# Altium integrated library TI Amplifiers and Linear Operational Amplifier High Speed.IntLib: 1100 symbols (part 34 of 44)
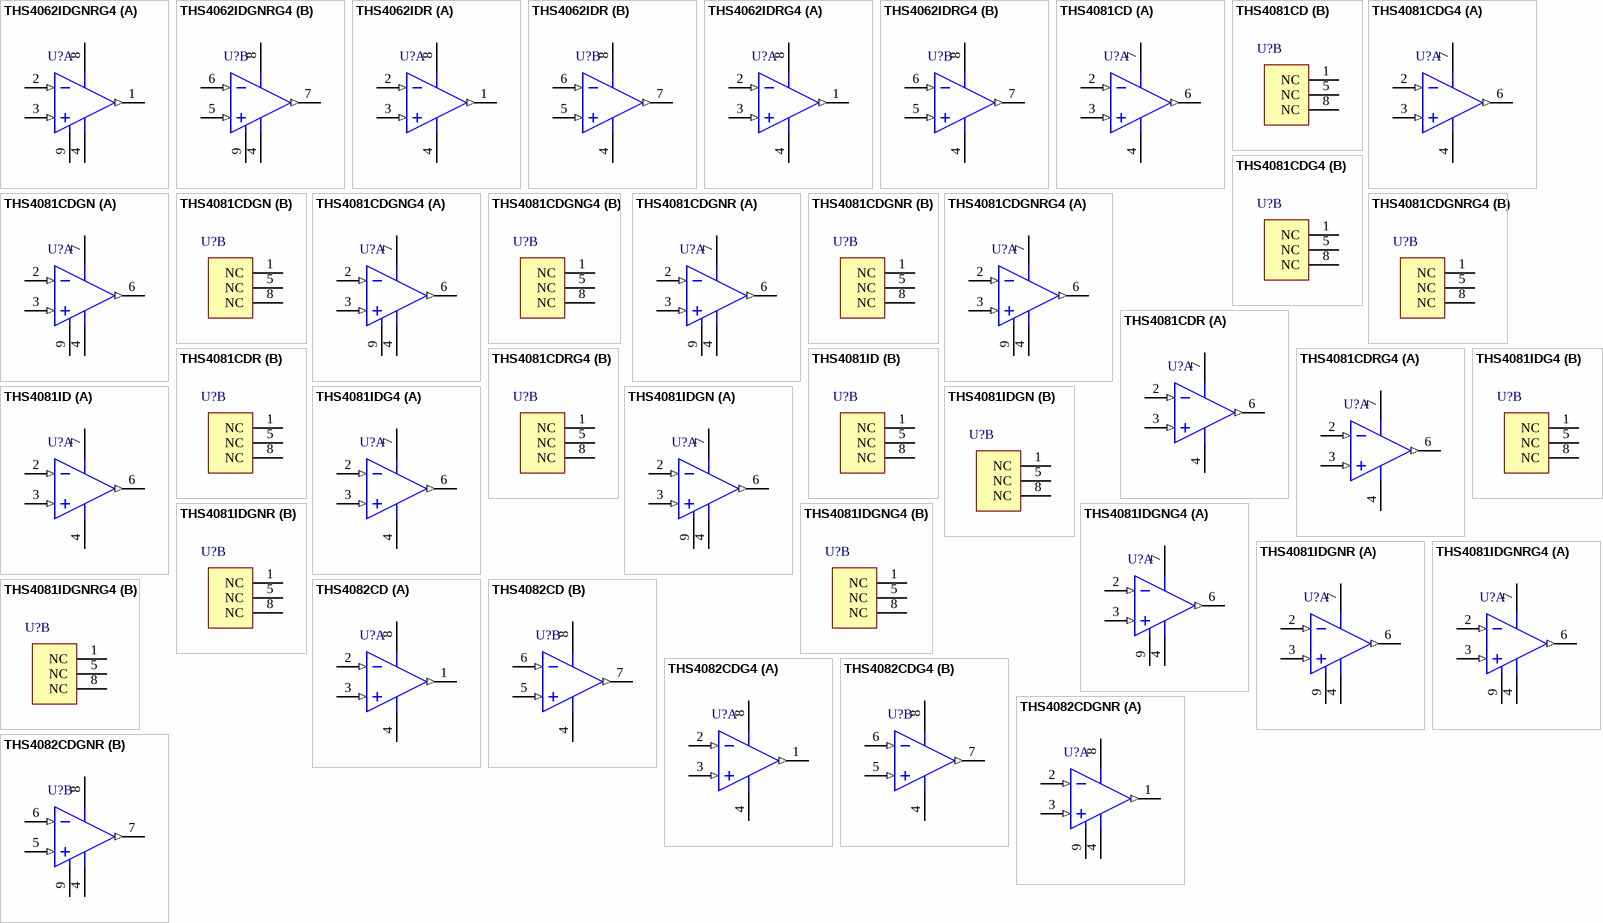
[diagram p84: symbols THS4062IDGNRG4 to THS4082CDGNR]

## THS4081IDGNRG4
designator U?
175 MHz Low-Power Voltage-Feedback Amplifier, 10 to 30 V, -40 to 85 degC, 8-pin SOP (DGN8), Green (RoHS & no Sb/Br); Manufacturer: Texas Instruments; PartNumber: THS4081IDGNRG4; 2nd Harmonic(dBc): 66; 3rd Harmonic(dBc): 77; @ MHz: 1; BW @ Acl(MHz): 175; Diff Gain(%): 0.01; Diff Phase(deg): 0.05; Iib(Max)(nA): 6000; Io(Typ)(mA): 85; Iq per channel(Max)(mA): 5; Settling Time (0.1%)(Typ)(ns): 43; Slew Rate(Typ)(V/us): 230; Sub Family: High Output Current Amplifier (>=50mA), High Speed Amplifier (>=50MHz), High Supply Voltage Amplifier (>=30V); THD (Fc is 1 MHz)(Typ)(dB): -64; Vio(Max)(mV): 7; Vn at Flatband(Typ)(nV/rtHz): 10; Vs(Max)(V): 30; DatasheetVersion: SLOS274D; PackageVersion: 4073271/F, 05/2011; PackageReference: DGN8-1760X1425TP; PackageDescription: 8-pin Plastic Small Outline, Body 3 x 3 mm, Pitch 0.65 mm; Supplier 1: Digi-Key; Supplier Part Number 1: THS4081IDGNRG4-ND; Supplier 2: Mouser; Supplier Part Number 2: 595-THS4081IDGNRG4; Acl, min stable gain(V/V): 1; Eco-Plan: Green (RoHS & no Sb/Br); Number of Channels: 1; Vs(Min)(V): 10; Mounting Technology: Surface Mount; Code_JEDEC: MO-187; ComponentLink1Description: Manufacturer URL; ComponentLink1URL: http://www.ti.com/; ComponentLink2Description: Datasheet; ComponentLink2URL: http://www.ti.com/general/docs/lit/getliterature.tsp?genericPartNumber=THS4081&fileType=pdf; ComponentLink3Description: Package Specification; ComponentLink3URL: http://www.ti.com/litv/pdf/mpds046e
footprint TI-DGN8-1760X1425TP_N (SOP, 8-Leads, Body 3x3mm, Pitch 0.65mm, Thermal Pad 1.76x1.425mm, IPC Medium Density)
footprint TI-DGN8-1760X1425TP_L (SOP, 8-Leads, Body 3x3mm, Pitch 0.65mm, Thermal Pad 1.76x1.425mm, IPC High Density)
footprint TI-DGN8-1760X1425TP_M (SOP, 8-Leads, Body 3x3mm, Pitch 0.65mm, Thermal Pad 1.76 x 1.425 mm, IPC Low Density)
part A pins: 2 IN- (in), 3 IN+ (in), 4 VCC- (power), 6 OUT (out), 7 VCC+ (power), 9 EP (power)
part B pins: 1 NC, 5 NC, 8 NC

## THS4082CD
designator U?
175 MHz Low-Power Voltage-Feedback Amplifier, Dual, 10 to 30 V, 0 to 70 degC, 8-pin SOIC (D8), Green (RoHS & no Sb/Br); Manufacturer: Texas Instruments; PartNumber: THS4082CD; 2nd Harmonic(dBc): 66; 3rd Harmonic(dBc): 77; @ MHz: 1; BW @ Acl(MHz): 175; Diff Gain(%): 0.01; Diff Phase(deg): 0.05; Iib(Max)(nA): 8000; Io(Typ)(mA): 85; Iq per channel(Max)(mA): 5; Number of Channels: 2; Settling Time (0.1%)(Typ)(ns): 43; Slew Rate(Typ)(V/us): 233; Sub Family: High Output Current Amplifier (>=50mA), High Speed Amplifier (>=50MHz), High Supply Voltage Amplifier (>=30V); THD (Fc is 1 MHz)(Typ)(dB): -64; Vio(Max)(mV): 4.5; Vn at Flatband(Typ)(nV/rtHz): 10.2; Vs(Max)(V): 30; Vs(Min)(V): 10; DatasheetVersion: SLOS274D; PackageVersion: 4040047-3/M, 06/2011; PackageReference: D8; PackageDescription: 8-Pin Plastic Small Outline, Body 4.9 x 3.9 mm, Pitch 1.27 mm; Supplier 1: Digi-Key; Supplier Part Number 1: 296-7550-5-ND; Supplier 2: Mouser; Supplier Part Number 2: 595-THS4082CD; Acl, min stable gain(V/V): 1; Eco-Plan: Green (RoHS & no Sb/Br); Mounting Technology: Surface Mount; Code_JEDEC: MS-012; ComponentLink1Description: Manufacturer URL; ComponentLink1URL: http://www.ti.com/; ComponentLink2Description: Datasheet; ComponentLink2URL: http://www.ti.com/general/docs/lit/getliterature.tsp?genericPartNumber=THS4082&fileType=pdf; ComponentLink3Description: Package Specification; ComponentLink3URL: http://www.ti.com/litv/pdf/msoi002j
footprint TI-D8_N (SOIC, 8-Leads, Body 4.9x3.9mm, Pitch 1.27mm, IPC Medium Density)
footprint TI-D8_L (SOIC, 8-Leads, Body 4.9x3.9mm, Pitch 1.27mm, IPC High Density)
footprint TI-D8_M (SOIC, 8-Leads, Body 4.9x3.9mm, Pitch 1.27mm, IPC Low Density)
pins on every part: 4 VCC- (power), 8 VCC+ (power)
part A pins: 1 OUT1 (out), 2 IN1- (in), 3 IN1+ (in)
part B pins: 5 IN2+ (in), 6 IN2- (in), 7 OUT2 (out)

## THS4082CDG4
designator U?
175 MHz Low-Power Voltage-Feedback Amplifier, Dual, 10 to 30 V, 0 to 70 degC, 8-pin SOIC (D8), Green (RoHS & no Sb/Br); Manufacturer: Texas Instruments; PartNumber: THS4082CDG4; 2nd Harmonic(dBc): 66; 3rd Harmonic(dBc): 77; @ MHz: 1; BW @ Acl(MHz): 175; Diff Gain(%): 0.01; Diff Phase(deg): 0.05; Iib(Max)(nA): 8000; Io(Typ)(mA): 85; Iq per channel(Max)(mA): 5; Number of Channels: 2; Settling Time (0.1%)(Typ)(ns): 43; Slew Rate(Typ)(V/us): 233; Sub Family: High Output Current Amplifier (>=50mA), High Speed Amplifier (>=50MHz), High Supply Voltage Amplifier (>=30V); THD (Fc is 1 MHz)(Typ)(dB): -64; Vio(Max)(mV): 4.5; Vn at Flatband(Typ)(nV/rtHz): 10.2; Vs(Max)(V): 30; Vs(Min)(V): 10; DatasheetVersion: SLOS274D; PackageVersion: 4040047-3/M, 06/2011; PackageReference: D8; PackageDescription: 8-Pin Plastic Small Outline, Body 4.9 x 3.9 mm, Pitch 1.27 mm; Supplier 1: Digi-Key; Supplier Part Number 1: THS4082CDG4-ND; Supplier 2: Farnell; Supplier Part Number 2: 1214367; Supplier 3: Newark; Supplier Part Number 3: 98K1517; Supplier 4: Newark; Supplier Part Number 4: 54K0753; Supplier 5: Mouser; Supplier Part Number 5: 595-THS4082CDG4; Acl, min stable gain(V/V): 1; Eco-Plan: Green (RoHS & no Sb/Br); Mounting Technology: Surface Mount; Code_JEDEC: MS-012; ComponentLink1Description: Manufacturer URL; ComponentLink1URL: http://www.ti.com/; ComponentLink2Description: Datasheet; ComponentLink2URL: http://www.ti.com/general/docs/lit/getliterature.tsp?genericPartNumber=THS4082&fileType=pdf; ComponentLink3Description: Package Specification; ComponentLink3URL: http://www.ti.com/litv/pdf/msoi002j
footprint TI-D8_N (SOIC, 8-Leads, Body 4.9x3.9mm, Pitch 1.27mm, IPC Medium Density)
footprint TI-D8_L (SOIC, 8-Leads, Body 4.9x3.9mm, Pitch 1.27mm, IPC High Density)
footprint TI-D8_M (SOIC, 8-Leads, Body 4.9x3.9mm, Pitch 1.27mm, IPC Low Density)
pins on every part: 4 VCC- (power), 8 VCC+ (power)
part A pins: 1 OUT1 (out), 2 IN1- (in), 3 IN1+ (in)
part B pins: 5 IN2+ (in), 6 IN2- (in), 7 OUT2 (out)

## THS4082CDGNR
designator U?
175 MHz Low-Power Voltage-Feedback Amplifier, Dual, 10 to 30 V, 0 to 70 degC, 8-pin SOP (DGN8), Green (RoHS & no Sb/Br); Manufacturer: Texas Instruments; PartNumber: THS4082CDGNR; 2nd Harmonic(dBc): 66; 3rd Harmonic(dBc): 77; @ MHz: 1; BW @ Acl(MHz): 175; Diff Gain(%): 0.01; Diff Phase(deg): 0.05; Iib(Max)(nA): 8000; Io(Typ)(mA): 85; Iq per channel(Max)(mA): 5; Number of Channels: 2; Settling Time (0.1%)(Typ)(ns): 43; Slew Rate(Typ)(V/us): 233; Sub Family: High Output Current Amplifier (>=50mA), High Speed Amplifier (>=50MHz), High Supply Voltage Amplifier (>=30V); THD (Fc is 1 MHz)(Typ)(dB): -64; Vio(Max)(mV): 4.5; Vn at Flatband(Typ)(nV/rtHz): 10.2; Vs(Max)(V): 30; Vs(Min)(V): 10; DatasheetVersion: SLOS274D; PackageVersion: 4073271/F, 05/2011; PackageReference: DGN8-1760X1425TP; PackageDescription: 8-pin Plastic Small Outline, Body 3 x 3 mm, Pitch 0.65 mm; Supplier 1: Digi-Key; Supplier Part Number 1: 296-7551-2-ND; Supplier 2: Digi-Key; Supplier Part Number 2: 296-7551-1-ND; Supplier 3: Digi-Key; Supplier Part Number 3: 296-7551-6-ND; Supplier 4: Mouser; Supplier Part Number 4: 595-THS4082CDGNR; Acl, min stable gain(V/V): 1; Eco-Plan: Green (RoHS & no Sb/Br); Mounting Technology: Surface Mount; Code_JEDEC: MO-187; ComponentLink1Description: Manufacturer URL; ComponentLink1URL: http://www.ti.com/; ComponentLink2Description: Datasheet; ComponentLink2URL: http://www.ti.com/general/docs/lit/getliterature.tsp?genericPartNumber=THS4082&fileType=pdf; ComponentLink3Description: Package Specification; ComponentLink3URL: http://www.ti.com/litv/pdf/mpds046e
footprint TI-DGN8-1760X1425TP_N (SOP, 8-Leads, Body 3x3mm, Pitch 0.65mm, Thermal Pad 1.76x1.425mm, IPC Medium Density)
footprint TI-DGN8-1760X1425TP_L (SOP, 8-Leads, Body 3x3mm, Pitch 0.65mm, Thermal Pad 1.76x1.425mm, IPC High Density)
footprint TI-DGN8-1760X1425TP_M (SOP, 8-Leads, Body 3x3mm, Pitch 0.65mm, Thermal Pad 1.76 x 1.425 mm, IPC Low Density)
pins on every part: 4 VCC- (power), 8 VCC+ (power), 9 EP
part A pins: 1 OUT1 (out), 2 IN1- (in), 3 IN1+ (in)
part B pins: 5 IN2+ (in), 6 IN2- (in), 7 OUT2 (out)

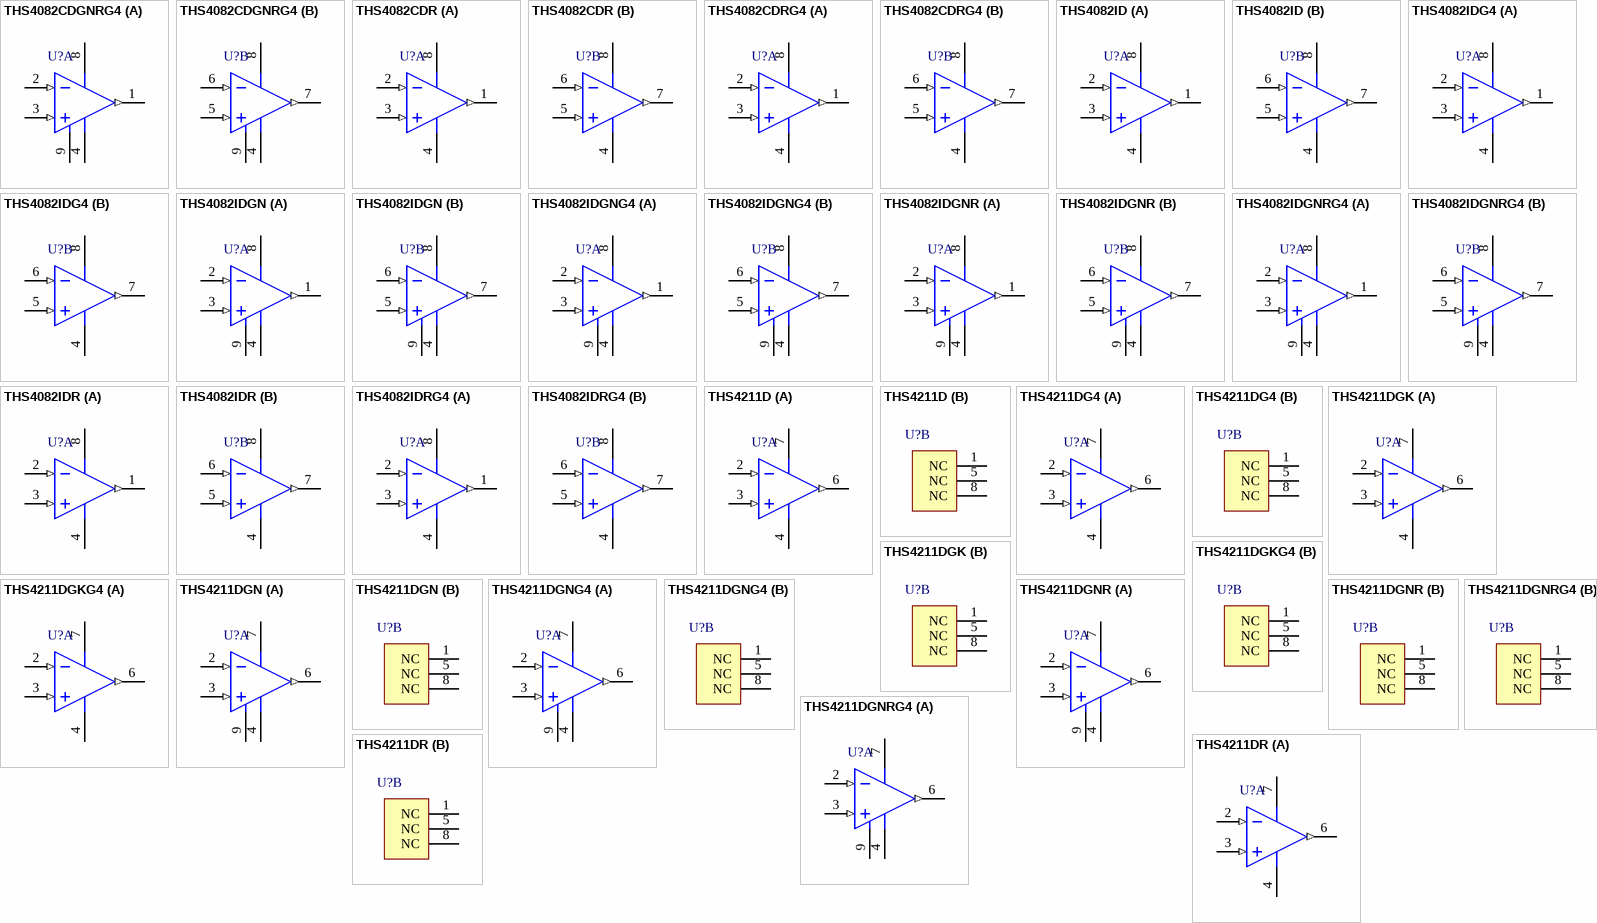
[diagram p39: symbols THS4082CDGNRG4 to THS4211DR]

## THS4082CDGNRG4
designator U?
175 MHz Low-Power Voltage-Feedback Amplifier, Dual, 10 to 30 V, 0 to 70 degC, 8-pin SOP (DGN8), Green (RoHS & no Sb/Br); Manufacturer: Texas Instruments; PartNumber: THS4082CDGNRG4; 2nd Harmonic(dBc): 66; 3rd Harmonic(dBc): 77; @ MHz: 1; BW @ Acl(MHz): 175; Diff Gain(%): 0.01; Diff Phase(deg): 0.05; Iib(Max)(nA): 8000; Io(Typ)(mA): 85; Iq per channel(Max)(mA): 5; Number of Channels: 2; Settling Time (0.1%)(Typ)(ns): 43; Slew Rate(Typ)(V/us): 233; Sub Family: High Output Current Amplifier (>=50mA), High Speed Amplifier (>=50MHz), High Supply Voltage Amplifier (>=30V); THD (Fc is 1 MHz)(Typ)(dB): -64; Vio(Max)(mV): 4.5; Vn at Flatband(Typ)(nV/rtHz): 10.2; Vs(Max)(V): 30; Vs(Min)(V): 10; DatasheetVersion: SLOS274D; PackageVersion: 4073271/F, 05/2011; PackageReference: DGN8-1760X1425TP; PackageDescription: 8-pin Plastic Small Outline, Body 3 x 3 mm, Pitch 0.65 mm; Supplier 1: Digi-Key; Supplier Part Number 1: THS4082CDGNRG4-ND; Supplier 2: Mouser; Supplier Part Number 2: 595-THS4082CDGNRG4; Acl, min stable gain(V/V): 1; Eco-Plan: Green (RoHS & no Sb/Br); Mounting Technology: Surface Mount; Code_JEDEC: MO-187; ComponentLink1Description: Manufacturer URL; ComponentLink1URL: http://www.ti.com/; ComponentLink2Description: Datasheet; ComponentLink2URL: http://www.ti.com/general/docs/lit/getliterature.tsp?genericPartNumber=THS4082&fileType=pdf; ComponentLink3Description: Package Specification; ComponentLink3URL: http://www.ti.com/litv/pdf/mpds046e
footprint TI-DGN8-1760X1425TP_N (SOP, 8-Leads, Body 3x3mm, Pitch 0.65mm, Thermal Pad 1.76x1.425mm, IPC Medium Density)
footprint TI-DGN8-1760X1425TP_L (SOP, 8-Leads, Body 3x3mm, Pitch 0.65mm, Thermal Pad 1.76x1.425mm, IPC High Density)
footprint TI-DGN8-1760X1425TP_M (SOP, 8-Leads, Body 3x3mm, Pitch 0.65mm, Thermal Pad 1.76 x 1.425 mm, IPC Low Density)
pins on every part: 4 VCC- (power), 8 VCC+ (power), 9 EP
part A pins: 1 OUT1 (out), 2 IN1- (in), 3 IN1+ (in)
part B pins: 5 IN2+ (in), 6 IN2- (in), 7 OUT2 (out)

## THS4082CDR
designator U?
175 MHz Low-Power Voltage-Feedback Amplifier, Dual, 10 to 30 V, 0 to 70 degC, 8-pin SOIC (D8), Green (RoHS & no Sb/Br); Manufacturer: Texas Instruments; PartNumber: THS4082CDR; 2nd Harmonic(dBc): 66; 3rd Harmonic(dBc): 77; @ MHz: 1; BW @ Acl(MHz): 175; Diff Gain(%): 0.01; Diff Phase(deg): 0.05; Iib(Max)(nA): 8000; Io(Typ)(mA): 85; Iq per channel(Max)(mA): 5; Number of Channels: 2; Settling Time (0.1%)(Typ)(ns): 43; Slew Rate(Typ)(V/us): 233; Sub Family: High Output Current Amplifier (>=50mA), High Speed Amplifier (>=50MHz), High Supply Voltage Amplifier (>=30V); THD (Fc is 1 MHz)(Typ)(dB): -64; Vio(Max)(mV): 4.5; Vn at Flatband(Typ)(nV/rtHz): 10.2; Vs(Max)(V): 30; Vs(Min)(V): 10; DatasheetVersion: SLOS274D; PackageVersion: 4040047-3/M, 06/2011; PackageReference: D8; PackageDescription: 8-Pin Plastic Small Outline, Body 4.9 x 3.9 mm, Pitch 1.27 mm; Supplier 1: Digi-Key; Supplier Part Number 1: THS4082CDR-ND; Supplier 2: Mouser; Supplier Part Number 2: 595-THS4082CDR; Acl, min stable gain(V/V): 1; Eco-Plan: Green (RoHS & no Sb/Br); Mounting Technology: Surface Mount; Code_JEDEC: MS-012; ComponentLink1Description: Manufacturer URL; ComponentLink1URL: http://www.ti.com/; ComponentLink2Description: Datasheet; ComponentLink2URL: http://www.ti.com/general/docs/lit/getliterature.tsp?genericPartNumber=THS4082&fileType=pdf; ComponentLink3Description: Package Specification; ComponentLink3URL: http://www.ti.com/litv/pdf/msoi002j
footprint TI-D8_N (SOIC, 8-Leads, Body 4.9x3.9mm, Pitch 1.27mm, IPC Medium Density)
footprint TI-D8_L (SOIC, 8-Leads, Body 4.9x3.9mm, Pitch 1.27mm, IPC High Density)
footprint TI-D8_M (SOIC, 8-Leads, Body 4.9x3.9mm, Pitch 1.27mm, IPC Low Density)
pins on every part: 4 VCC- (power), 8 VCC+ (power)
part A pins: 1 OUT1 (out), 2 IN1- (in), 3 IN1+ (in)
part B pins: 5 IN2+ (in), 6 IN2- (in), 7 OUT2 (out)

## THS4082CDRG4
designator U?
175 MHz Low-Power Voltage-Feedback Amplifier, Dual, 10 to 30 V, 0 to 70 degC, 8-pin SOIC (D8), Green (RoHS & no Sb/Br); Manufacturer: Texas Instruments; PartNumber: THS4082CDRG4; 2nd Harmonic(dBc): 66; 3rd Harmonic(dBc): 77; @ MHz: 1; BW @ Acl(MHz): 175; Diff Gain(%): 0.01; Diff Phase(deg): 0.05; Iib(Max)(nA): 8000; Io(Typ)(mA): 85; Iq per channel(Max)(mA): 5; Number of Channels: 2; Settling Time (0.1%)(Typ)(ns): 43; Slew Rate(Typ)(V/us): 233; Sub Family: High Output Current Amplifier (>=50mA), High Speed Amplifier (>=50MHz), High Supply Voltage Amplifier (>=30V); THD (Fc is 1 MHz)(Typ)(dB): -64; Vio(Max)(mV): 4.5; Vn at Flatband(Typ)(nV/rtHz): 10.2; Vs(Max)(V): 30; Vs(Min)(V): 10; DatasheetVersion: SLOS274D; PackageVersion: 4040047-3/M, 06/2011; PackageReference: D8; PackageDescription: 8-Pin Plastic Small Outline, Body 4.9 x 3.9 mm, Pitch 1.27 mm; Supplier 1: Digi-Key; Supplier Part Number 1: THS4082CDRG4-ND; Supplier 2: Newark; Supplier Part Number 2: 33K6937; Supplier 3: Mouser; Supplier Part Number 3: 595-THS4082CDRG4; Acl, min stable gain(V/V): 1; Eco-Plan: Green (RoHS & no Sb/Br); Mounting Technology: Surface Mount; Code_JEDEC: MS-012; ComponentLink1Description: Manufacturer URL; ComponentLink1URL: http://www.ti.com/; ComponentLink2Description: Datasheet; ComponentLink2URL: http://www.ti.com/general/docs/lit/getliterature.tsp?genericPartNumber=THS4082&fileType=pdf; ComponentLink3Description: Package Specification; ComponentLink3URL: http://www.ti.com/litv/pdf/msoi002j
footprint TI-D8_N (SOIC, 8-Leads, Body 4.9x3.9mm, Pitch 1.27mm, IPC Medium Density)
footprint TI-D8_L (SOIC, 8-Leads, Body 4.9x3.9mm, Pitch 1.27mm, IPC High Density)
footprint TI-D8_M (SOIC, 8-Leads, Body 4.9x3.9mm, Pitch 1.27mm, IPC Low Density)
pins on every part: 4 VCC- (power), 8 VCC+ (power)
part A pins: 1 OUT1 (out), 2 IN1- (in), 3 IN1+ (in)
part B pins: 5 IN2+ (in), 6 IN2- (in), 7 OUT2 (out)

## THS4082ID
designator U?
175 MHz Low-Power Voltage-Feedback Amplifier, Dual, 10 to 30 V, -40 to 85 degC, 8-pin SOIC (D8), Green (RoHS & no Sb/Br); Manufacturer: Texas Instruments; PartNumber: THS4082ID; 2nd Harmonic(dBc): 66; 3rd Harmonic(dBc): 77; @ MHz: 1; BW @ Acl(MHz): 175; Diff Gain(%): 0.01; Diff Phase(deg): 0.05; Iib(Max)(nA): 8000; Io(Typ)(mA): 85; Iq per channel(Max)(mA): 5; Number of Channels: 2; Settling Time (0.1%)(Typ)(ns): 43; Slew Rate(Typ)(V/us): 233; Sub Family: High Output Current Amplifier (>=50mA), High Speed Amplifier (>=50MHz), High Supply Voltage Amplifier (>=30V); THD (Fc is 1 MHz)(Typ)(dB): -64; Vio(Max)(mV): 4.5; Vn at Flatband(Typ)(nV/rtHz): 10.2; Vs(Max)(V): 30; Vs(Min)(V): 10; DatasheetVersion: SLOS274D; PackageVersion: 4040047-3/M, 06/2011; PackageReference: D8; PackageDescription: 8-Pin Plastic Small Outline, Body 4.9 x 3.9 mm, Pitch 1.27 mm; Supplier 1: Digi-Key; Supplier Part Number 1: 296-7552-5-ND; Supplier 2: Farnell; Supplier Part Number 2: 3349421; Supplier 3: Newark; Supplier Part Number 3: 76C6380; Supplier 4: Mouser; Supplier Part Number 4: 595-THS4082ID; Acl, min stable gain(V/V): 1; Eco-Plan: Green (RoHS & no Sb/Br); Mounting Technology: Surface Mount; Code_JEDEC: MS-012; ComponentLink1Description: Manufacturer URL; ComponentLink1URL: http://www.ti.com/; ComponentLink2Description: Datasheet; ComponentLink2URL: http://www.ti.com/general/docs/lit/getliterature.tsp?genericPartNumber=THS4082&fileType=pdf; ComponentLink3Description: Package Specification; ComponentLink3URL: http://www.ti.com/litv/pdf/msoi002j
footprint TI-D8_N (SOIC, 8-Leads, Body 4.9x3.9mm, Pitch 1.27mm, IPC Medium Density)
footprint TI-D8_L (SOIC, 8-Leads, Body 4.9x3.9mm, Pitch 1.27mm, IPC High Density)
footprint TI-D8_M (SOIC, 8-Leads, Body 4.9x3.9mm, Pitch 1.27mm, IPC Low Density)
pins on every part: 4 VCC- (power), 8 VCC+ (power)
part A pins: 1 OUT1 (out), 2 IN1- (in), 3 IN1+ (in)
part B pins: 5 IN2+ (in), 6 IN2- (in), 7 OUT2 (out)

## THS4082IDG4
designator U?
175 MHz Low-Power Voltage-Feedback Amplifier, Dual, 10 to 30 V, -40 to 85 degC, 8-pin SOIC (D8), Green (RoHS & no Sb/Br); Manufacturer: Texas Instruments; PartNumber: THS4082IDG4; 2nd Harmonic(dBc): 66; 3rd Harmonic(dBc): 77; @ MHz: 1; BW @ Acl(MHz): 175; Diff Gain(%): 0.01; Diff Phase(deg): 0.05; Iib(Max)(nA): 8000; Io(Typ)(mA): 85; Iq per channel(Max)(mA): 5; Number of Channels: 2; Settling Time (0.1%)(Typ)(ns): 43; Slew Rate(Typ)(V/us): 233; Sub Family: High Output Current Amplifier (>=50mA), High Speed Amplifier (>=50MHz), High Supply Voltage Amplifier (>=30V); THD (Fc is 1 MHz)(Typ)(dB): -64; Vio(Max)(mV): 4.5; Vn at Flatband(Typ)(nV/rtHz): 10.2; Vs(Max)(V): 30; Vs(Min)(V): 10; DatasheetVersion: SLOS274D; PackageVersion: 4040047-3/M, 06/2011; PackageReference: D8; PackageDescription: 8-Pin Plastic Small Outline, Body 4.9 x 3.9 mm, Pitch 1.27 mm; Supplier 1: Digi-Key; Supplier Part Number 1: THS4082IDG4-ND; Supplier 2: Mouser; Supplier Part Number 2: 595-THS4082IDG4; Acl, min stable gain(V/V): 1; Eco-Plan: Green (RoHS & no Sb/Br); Mounting Technology: Surface Mount; Code_JEDEC: MS-012; ComponentLink1Description: Manufacturer URL; ComponentLink1URL: http://www.ti.com/; ComponentLink2Description: Datasheet; ComponentLink2URL: http://www.ti.com/general/docs/lit/getliterature.tsp?genericPartNumber=THS4082&fileType=pdf; ComponentLink3Description: Package Specification; ComponentLink3URL: http://www.ti.com/litv/pdf/msoi002j
footprint TI-D8_N (SOIC, 8-Leads, Body 4.9x3.9mm, Pitch 1.27mm, IPC Medium Density)
footprint TI-D8_L (SOIC, 8-Leads, Body 4.9x3.9mm, Pitch 1.27mm, IPC High Density)
footprint TI-D8_M (SOIC, 8-Leads, Body 4.9x3.9mm, Pitch 1.27mm, IPC Low Density)
pins on every part: 4 VCC- (power), 8 VCC+ (power)
part A pins: 1 OUT1 (out), 2 IN1- (in), 3 IN1+ (in)
part B pins: 5 IN2+ (in), 6 IN2- (in), 7 OUT2 (out)

## THS4082IDGN
designator U?
175 MHz Low-Power Voltage-Feedback Amplifier, Dual, 10 to 30 V, -40 to 85 degC, 8-pin SOP (DGN8), Green (RoHS & no Sb/Br); Manufacturer: Texas Instruments; PartNumber: THS4082IDGN; 2nd Harmonic(dBc): 66; 3rd Harmonic(dBc): 77; @ MHz: 1; BW @ Acl(MHz): 175; Diff Gain(%): 0.01; Diff Phase(deg): 0.05; Iib(Max)(nA): 8000; Io(Typ)(mA): 85; Iq per channel(Max)(mA): 5; Number of Channels: 2; Settling Time (0.1%)(Typ)(ns): 43; Slew Rate(Typ)(V/us): 233; Sub Family: High Output Current Amplifier (>=50mA), High Speed Amplifier (>=50MHz), High Supply Voltage Amplifier (>=30V); THD (Fc is 1 MHz)(Typ)(dB): -64; Vio(Max)(mV): 4.5; Vn at Flatband(Typ)(nV/rtHz): 10.2; Vs(Max)(V): 30; Vs(Min)(V): 10; DatasheetVersion: SLOS274D; PackageVersion: 4073271/F, 05/2011; PackageReference: DGN8-1760X1425TP; PackageDescription: 8-pin Plastic Small Outline, Body 3 x 3 mm, Pitch 0.65 mm; Supplier 1: Digi-Key; Supplier Part Number 1: 296-34210-5-ND; Supplier 2: Newark; Supplier Part Number 2: 76C6381; Supplier 3: Mouser; Supplier Part Number 3: 595-THS4082IDGN; Acl, min stable gain(V/V): 1; Eco-Plan: Green (RoHS & no Sb/Br); Mounting Technology: Surface Mount; Code_JEDEC: MO-187; ComponentLink1Description: Manufacturer URL; ComponentLink1URL: http://www.ti.com/; ComponentLink2Description: Datasheet; ComponentLink2URL: http://www.ti.com/general/docs/lit/getliterature.tsp?genericPartNumber=THS4082&fileType=pdf; ComponentLink3Description: Package Specification; ComponentLink3URL: http://www.ti.com/litv/pdf/mpds046e
footprint TI-DGN8-1760X1425TP_N (SOP, 8-Leads, Body 3x3mm, Pitch 0.65mm, Thermal Pad 1.76x1.425mm, IPC Medium Density)
footprint TI-DGN8-1760X1425TP_L (SOP, 8-Leads, Body 3x3mm, Pitch 0.65mm, Thermal Pad 1.76x1.425mm, IPC High Density)
footprint TI-DGN8-1760X1425TP_M (SOP, 8-Leads, Body 3x3mm, Pitch 0.65mm, Thermal Pad 1.76 x 1.425 mm, IPC Low Density)
pins on every part: 4 VCC- (power), 8 VCC+ (power), 9 EP
part A pins: 1 OUT1 (out), 2 IN1- (in), 3 IN1+ (in)
part B pins: 5 IN2+ (in), 6 IN2- (in), 7 OUT2 (out)

## THS4082IDGNG4
designator U?
175 MHz Low-Power Voltage-Feedback Amplifier, Dual, 10 to 30 V, -40 to 85 degC, 8-pin SOP (DGN8), Green (RoHS & no Sb/Br); Manufacturer: Texas Instruments; PartNumber: THS4082IDGNG4; 2nd Harmonic(dBc): 66; 3rd Harmonic(dBc): 77; @ MHz: 1; BW @ Acl(MHz): 175; Diff Gain(%): 0.01; Diff Phase(deg): 0.05; Iib(Max)(nA): 8000; Io(Typ)(mA): 85; Iq per channel(Max)(mA): 5; Number of Channels: 2; Settling Time (0.1%)(Typ)(ns): 43; Slew Rate(Typ)(V/us): 233; Sub Family: High Output Current Amplifier (>=50mA), High Speed Amplifier (>=50MHz), High Supply Voltage Amplifier (>=30V); THD (Fc is 1 MHz)(Typ)(dB): -64; Vio(Max)(mV): 4.5; Vn at Flatband(Typ)(nV/rtHz): 10.2; Vs(Max)(V): 30; Vs(Min)(V): 10; DatasheetVersion: SLOS274D; PackageVersion: 4073271/F, 05/2011; PackageReference: DGN8-1760X1425TP; PackageDescription: 8-pin Plastic Small Outline, Body 3 x 3 mm, Pitch 0.65 mm; Supplier 1: Digi-Key; Supplier Part Number 1: THS4082IDGNG4-ND; Supplier 2: Mouser; Supplier Part Number 2: 595-THS4082IDGNG4; Acl, min stable gain(V/V): 1; Eco-Plan: Green (RoHS & no Sb/Br); Mounting Technology: Surface Mount; Code_JEDEC: MO-187; ComponentLink1Description: Manufacturer URL; ComponentLink1URL: http://www.ti.com/; ComponentLink2Description: Datasheet; ComponentLink2URL: http://www.ti.com/general/docs/lit/getliterature.tsp?genericPartNumber=THS4082&fileType=pdf; ComponentLink3Description: Package Specification; ComponentLink3URL: http://www.ti.com/litv/pdf/mpds046e
footprint TI-DGN8-1760X1425TP_N (SOP, 8-Leads, Body 3x3mm, Pitch 0.65mm, Thermal Pad 1.76x1.425mm, IPC Medium Density)
footprint TI-DGN8-1760X1425TP_L (SOP, 8-Leads, Body 3x3mm, Pitch 0.65mm, Thermal Pad 1.76x1.425mm, IPC High Density)
footprint TI-DGN8-1760X1425TP_M (SOP, 8-Leads, Body 3x3mm, Pitch 0.65mm, Thermal Pad 1.76 x 1.425 mm, IPC Low Density)
pins on every part: 4 VCC- (power), 8 VCC+ (power), 9 EP
part A pins: 1 OUT1 (out), 2 IN1- (in), 3 IN1+ (in)
part B pins: 5 IN2+ (in), 6 IN2- (in), 7 OUT2 (out)

## THS4082IDGNR
designator U?
175 MHz Low-Power Voltage-Feedback Amplifier, Dual, 10 to 30 V, -40 to 85 degC, 8-pin SOP (DGN8), Green (RoHS & no Sb/Br); Manufacturer: Texas Instruments; PartNumber: THS4082IDGNR; 2nd Harmonic(dBc): 66; 3rd Harmonic(dBc): 77; @ MHz: 1; BW @ Acl(MHz): 175; Diff Gain(%): 0.01; Diff Phase(deg): 0.05; Iib(Max)(nA): 8000; Io(Typ)(mA): 85; Iq per channel(Max)(mA): 5; Number of Channels: 2; Settling Time (0.1%)(Typ)(ns): 43; Slew Rate(Typ)(V/us): 233; Sub Family: High Output Current Amplifier (>=50mA), High Speed Amplifier (>=50MHz), High Supply Voltage Amplifier (>=30V); THD (Fc is 1 MHz)(Typ)(dB): -64; Vio(Max)(mV): 4.5; Vn at Flatband(Typ)(nV/rtHz): 10.2; Vs(Max)(V): 30; Vs(Min)(V): 10; DatasheetVersion: SLOS274D; PackageVersion: 4073271/F, 05/2011; PackageReference: DGN8-1760X1425TP; PackageDescription: 8-pin Plastic Small Outline, Body 3 x 3 mm, Pitch 0.65 mm; Supplier 1: Digi-Key; Supplier Part Number 1: 296-7553-2-ND; Supplier 2: Digi-Key; Supplier Part Number 2: 296-7553-1-ND; Supplier 3: Digi-Key; Supplier Part Number 3: 296-7553-6-ND; Supplier 4: Newark; Supplier Part Number 4: 76C6382; Supplier 5: Mouser; Supplier Part Number 5: 595-THS4082IDGNR; Acl, min stable gain(V/V): 1; Eco-Plan: Green (RoHS & no Sb/Br); Mounting Technology: Surface Mount; Code_JEDEC: MO-187; ComponentLink1Description: Manufacturer URL; ComponentLink1URL: http://www.ti.com/; ComponentLink2Description: Datasheet; ComponentLink2URL: http://www.ti.com/general/docs/lit/getliterature.tsp?genericPartNumber=THS4082&fileType=pdf; ComponentLink3Description: Package Specification; ComponentLink3URL: http://www.ti.com/litv/pdf/mpds046e
footprint TI-DGN8-1760X1425TP_N (SOP, 8-Leads, Body 3x3mm, Pitch 0.65mm, Thermal Pad 1.76x1.425mm, IPC Medium Density)
footprint TI-DGN8-1760X1425TP_L (SOP, 8-Leads, Body 3x3mm, Pitch 0.65mm, Thermal Pad 1.76x1.425mm, IPC High Density)
footprint TI-DGN8-1760X1425TP_M (SOP, 8-Leads, Body 3x3mm, Pitch 0.65mm, Thermal Pad 1.76 x 1.425 mm, IPC Low Density)
pins on every part: 4 VCC- (power), 8 VCC+ (power), 9 EP
part A pins: 1 OUT1 (out), 2 IN1- (in), 3 IN1+ (in)
part B pins: 5 IN2+ (in), 6 IN2- (in), 7 OUT2 (out)

## THS4082IDGNRG4
designator U?
175 MHz Low-Power Voltage-Feedback Amplifier, Dual, 10 to 30 V, -40 to 85 degC, 8-pin SOP (DGN8), Green (RoHS & no Sb/Br); Manufacturer: Texas Instruments; PartNumber: THS4082IDGNRG4; 2nd Harmonic(dBc): 66; 3rd Harmonic(dBc): 77; @ MHz: 1; BW @ Acl(MHz): 175; Diff Gain(%): 0.01; Diff Phase(deg): 0.05; Iib(Max)(nA): 8000; Io(Typ)(mA): 85; Iq per channel(Max)(mA): 5; Number of Channels: 2; Settling Time (0.1%)(Typ)(ns): 43; Slew Rate(Typ)(V/us): 233; Sub Family: High Output Current Amplifier (>=50mA), High Speed Amplifier (>=50MHz), High Supply Voltage Amplifier (>=30V); THD (Fc is 1 MHz)(Typ)(dB): -64; Vio(Max)(mV): 4.5; Vn at Flatband(Typ)(nV/rtHz): 10.2; Vs(Max)(V): 30; Vs(Min)(V): 10; DatasheetVersion: SLOS274D; PackageVersion: 4073271/F, 05/2011; PackageReference: DGN8-1760X1425TP; PackageDescription: 8-pin Plastic Small Outline, Body 3 x 3 mm, Pitch 0.65 mm; Supplier 1: Digi-Key; Supplier Part Number 1: THS4082IDGNRG4-ND; Supplier 2: Mouser; Supplier Part Number 2: 595-THS4082IDGNRG4; Acl, min stable gain(V/V): 1; Eco-Plan: Green (RoHS & no Sb/Br); Mounting Technology: Surface Mount; Code_JEDEC: MO-187; ComponentLink1Description: Manufacturer URL; ComponentLink1URL: http://www.ti.com/; ComponentLink2Description: Datasheet; ComponentLink2URL: http://www.ti.com/general/docs/lit/getliterature.tsp?genericPartNumber=THS4082&fileType=pdf; ComponentLink3Description: Package Specification; ComponentLink3URL: http://www.ti.com/litv/pdf/mpds046e
footprint TI-DGN8-1760X1425TP_N (SOP, 8-Leads, Body 3x3mm, Pitch 0.65mm, Thermal Pad 1.76x1.425mm, IPC Medium Density)
footprint TI-DGN8-1760X1425TP_L (SOP, 8-Leads, Body 3x3mm, Pitch 0.65mm, Thermal Pad 1.76x1.425mm, IPC High Density)
footprint TI-DGN8-1760X1425TP_M (SOP, 8-Leads, Body 3x3mm, Pitch 0.65mm, Thermal Pad 1.76 x 1.425 mm, IPC Low Density)
pins on every part: 4 VCC- (power), 8 VCC+ (power), 9 EP
part A pins: 1 OUT1 (out), 2 IN1- (in), 3 IN1+ (in)
part B pins: 5 IN2+ (in), 6 IN2- (in), 7 OUT2 (out)

## THS4082IDR
designator U?
175 MHz Low-Power Voltage-Feedback Amplifier, Dual, 10 to 30 V, -40 to 85 degC, 8-pin SOIC (D8), Green (RoHS & no Sb/Br); Manufacturer: Texas Instruments; PartNumber: THS4082IDR; 2nd Harmonic(dBc): 66; 3rd Harmonic(dBc): 77; @ MHz: 1; BW @ Acl(MHz): 175; Diff Gain(%): 0.01; Diff Phase(deg): 0.05; Iib(Max)(nA): 8000; Io(Typ)(mA): 85; Iq per channel(Max)(mA): 5; Number of Channels: 2; Settling Time (0.1%)(Typ)(ns): 43; Slew Rate(Typ)(V/us): 233; Sub Family: High Output Current Amplifier (>=50mA), High Speed Amplifier (>=50MHz), High Supply Voltage Amplifier (>=30V); THD (Fc is 1 MHz)(Typ)(dB): -64; Vio(Max)(mV): 4.5; Vn at Flatband(Typ)(nV/rtHz): 10.2; Vs(Max)(V): 30; Vs(Min)(V): 10; DatasheetVersion: SLOS274D; PackageVersion: 4040047-3/M, 06/2011; PackageReference: D8; PackageDescription: 8-Pin Plastic Small Outline, Body 4.9 x 3.9 mm, Pitch 1.27 mm; Supplier 1: Digi-Key; Supplier Part Number 1: THS4082IDR-ND; Supplier 2: Mouser; Supplier Part Number 2: 595-THS4082IDR; Acl, min stable gain(V/V): 1; Eco-Plan: Green (RoHS & no Sb/Br); Mounting Technology: Surface Mount; Code_JEDEC: MS-012; ComponentLink1Description: Manufacturer URL; ComponentLink1URL: http://www.ti.com/; ComponentLink2Description: Datasheet; ComponentLink2URL: http://www.ti.com/general/docs/lit/getliterature.tsp?genericPartNumber=THS4082&fileType=pdf; ComponentLink3Description: Package Specification; ComponentLink3URL: http://www.ti.com/litv/pdf/msoi002j
footprint TI-D8_N (SOIC, 8-Leads, Body 4.9x3.9mm, Pitch 1.27mm, IPC Medium Density)
footprint TI-D8_L (SOIC, 8-Leads, Body 4.9x3.9mm, Pitch 1.27mm, IPC High Density)
footprint TI-D8_M (SOIC, 8-Leads, Body 4.9x3.9mm, Pitch 1.27mm, IPC Low Density)
pins on every part: 4 VCC- (power), 8 VCC+ (power)
part A pins: 1 OUT1 (out), 2 IN1- (in), 3 IN1+ (in)
part B pins: 5 IN2+ (in), 6 IN2- (in), 7 OUT2 (out)

## THS4082IDRG4
designator U?
175 MHz Low-Power Voltage-Feedback Amplifier, Dual, 10 to 30 V, -40 to 85 degC, 8-pin SOIC (D8), Green (RoHS & no Sb/Br); Manufacturer: Texas Instruments; PartNumber: THS4082IDRG4; 2nd Harmonic(dBc): 66; 3rd Harmonic(dBc): 77; @ MHz: 1; BW @ Acl(MHz): 175; Diff Gain(%): 0.01; Diff Phase(deg): 0.05; Iib(Max)(nA): 6000; Io(Typ)(mA): 85; Iq per channel(Max)(mA): 5; Number of Channels: 2; Settling Time (0.1%)(Typ)(ns): 43; Slew Rate(Typ)(V/us): 230; Sub Family: High Output Current Amplifier (>=50mA), High Speed Amplifier (>=50MHz), High Supply Voltage Amplifier (>=30V); THD (Fc is 1 MHz)(Typ)(dB): -64; Vio(Max)(mV): 7; Vn at Flatband(Typ)(nV/rtHz): 10; Vs(Max)(V): 30; DatasheetVersion: SLOS274D; PackageVersion: 4040047-3/M, 06/2011; PackageReference: D8; PackageDescription: 8-Pin Plastic Small Outline, Body 4.9 x 3.9 mm, Pitch 1.27 mm; Supplier 1: Digi-Key; Supplier Part Number 1: THS4082IDRG4-ND; Supplier 2: Newark; Supplier Part Number 2: 33K6939; Supplier 3: Mouser; Supplier Part Number 3: 595-THS4082IDRG4; Acl, min stable gain(V/V): 1; Eco-Plan: Green (RoHS & no Sb/Br); Vs(Min)(V): 10; Mounting Technology: Surface Mount; Code_JEDEC: MS-012; ComponentLink1Description: Manufacturer URL; ComponentLink1URL: http://www.ti.com/; ComponentLink2Description: Datasheet; ComponentLink2URL: http://www.ti.com/general/docs/lit/getliterature.tsp?genericPartNumber=THS4082&fileType=pdf; ComponentLink3Description: Package Specification; ComponentLink3URL: http://www.ti.com/litv/pdf/msoi002j
footprint TI-D8_N (SOIC, 8-Leads, Body 4.9x3.9mm, Pitch 1.27mm, IPC Medium Density)
footprint TI-D8_L (SOIC, 8-Leads, Body 4.9x3.9mm, Pitch 1.27mm, IPC High Density)
footprint TI-D8_M (SOIC, 8-Leads, Body 4.9x3.9mm, Pitch 1.27mm, IPC Low Density)
pins on every part: 4 VCC- (power), 8 VCC+ (power)
part A pins: 1 OUT1 (out), 2 IN1- (in), 3 IN1+ (in)
part B pins: 5 IN2+ (in), 6 IN2- (in), 7 OUT2 (out)

## THS4211D
designator U?
Super-Fast, Ultra-Low-Distortion, High-Speed Operational Amplifier with Shutdown, 5 to 15 V, -40 to 85 degC, 8-pin SOIC (D8), Green (RoHS & no Sb/Br); Manufacturer: Texas Instruments; PartNumber: THS4211D; 2nd Harmonic(dBc): 78; 3rd Harmonic(dBc): 100; @ MHz: 30; Acl, min stable gain(V/V): 1; BW @ Acl(MHz): 1000; Diff Gain(%): 0.007; Diff Phase(deg): 0.003; Iib(Max)(nA): 20000; Io(Typ)(mA): 170; Iq per channel(Max)(mA): 24; Settling Time (0.1%)(Typ)(ns): 22; Slew Rate(Typ)(V/us): 970; Sub Family: High Output Current Amplifier (>=50mA), High Speed Amplifier (>=50MHz); THD (Fc is 1 MHz)(Typ)(dB): -90; Vio(Max)(mV): 3; Vn at Flatband(Typ)(nV/rtHz): 7; Vs(Max)(V): 15; Vs(Min)(V): 5; DatasheetVersion: SLOS400E; PackageVersion: 4040047-3/M, 06/2011; PackageReference: D8; PackageDescription: 8-Pin Plastic Small Outline, Body 4.9 x 3.9 mm, Pitch 1.27 mm; Supplier 1: Digi-Key; Supplier Part Number 1: 296-13790-5-ND; Supplier 2: Farnell; Supplier Part Number 2: 8453306; Supplier 3: Newark; Supplier Part Number 3: 38K8256; Supplier 4: Newark; Supplier Part Number 4: 02E7112; Supplier 5: Mouser; Supplier Part Number 5: 595-THS4211D; Eco-Plan: Green (RoHS & no Sb/Br); Number of Channels: 1; Mounting Technology: Surface Mount; Code_JEDEC: MS-012; ComponentLink1Description: Manufacturer URL; ComponentLink1URL: http://www.ti.com/; ComponentLink2Description: Datasheet; ComponentLink2URL: http://www.ti.com/general/docs/lit/getliterature.tsp?genericPartNumber=THS4211&fileType=pdf; ComponentLink3Description: Package Specification; ComponentLink3URL: http://www.ti.com/litv/pdf/msoi002j
footprint TI-D8_N (SOIC, 8-Leads, Body 4.9x3.9mm, Pitch 1.27mm, IPC Medium Density)
footprint TI-D8_L (SOIC, 8-Leads, Body 4.9x3.9mm, Pitch 1.27mm, IPC High Density)
footprint TI-D8_M (SOIC, 8-Leads, Body 4.9x3.9mm, Pitch 1.27mm, IPC Low Density)
part A pins: 2 IN- (in), 3 IN+ (in), 4 VS- (power), 6 VOUT (out), 7 VS+ (power)
part B pins: 1 NC, 5 NC, 8 NC

## THS4211DG4
designator U?
Super-Fast, Ultra-Low-Distortion, High-Speed Operational Amplifier with Shutdown, 5 to 15 V, -40 to 85 degC, 8-pin SOIC (D8), Green (RoHS & no Sb/Br); Manufacturer: Texas Instruments; PartNumber: THS4211DG4; 2nd Harmonic(dBc): 78; 3rd Harmonic(dBc): 100; @ MHz: 30; Acl, min stable gain(V/V): 1; BW @ Acl(MHz): 1000; Diff Gain(%): 0.007; Diff Phase(deg): 0.003; Iib(Max)(nA): 20000; Io(Typ)(mA): 170; Iq per channel(Max)(mA): 24; Settling Time (0.1%)(Typ)(ns): 22; Slew Rate(Typ)(V/us): 970; Sub Family: High Output Current Amplifier (>=50mA), High Speed Amplifier (>=50MHz); THD (Fc is 1 MHz)(Typ)(dB): -90; Vio(Max)(mV): 3; Vn at Flatband(Typ)(nV/rtHz): 7; Vs(Max)(V): 15; Vs(Min)(V): 5; DatasheetVersion: SLOS400E; PackageVersion: 4040047-3/M, 06/2011; PackageReference: D8; PackageDescription: 8-Pin Plastic Small Outline, Body 4.9 x 3.9 mm, Pitch 1.27 mm; Supplier 1: Digi-Key; Supplier Part Number 1: THS4211DG4-ND; Supplier 2: Newark; Supplier Part Number 2: 54K0763; Supplier 3: Mouser; Supplier Part Number 3: 595-THS4211DG4; Eco-Plan: Green (RoHS & no Sb/Br); Number of Channels: 1; Mounting Technology: Surface Mount; Code_JEDEC: MS-012; ComponentLink1Description: Manufacturer URL; ComponentLink1URL: http://www.ti.com/; ComponentLink2Description: Datasheet; ComponentLink2URL: http://www.ti.com/general/docs/lit/getliterature.tsp?genericPartNumber=THS4211&fileType=pdf; ComponentLink3Description: Package Specification; ComponentLink3URL: http://www.ti.com/litv/pdf/msoi002j
footprint TI-D8_N (SOIC, 8-Leads, Body 4.9x3.9mm, Pitch 1.27mm, IPC Medium Density)
footprint TI-D8_L (SOIC, 8-Leads, Body 4.9x3.9mm, Pitch 1.27mm, IPC High Density)
footprint TI-D8_M (SOIC, 8-Leads, Body 4.9x3.9mm, Pitch 1.27mm, IPC Low Density)
part A pins: 2 IN- (in), 3 IN+ (in), 4 VS- (power), 6 VOUT (out), 7 VS+ (power)
part B pins: 1 NC, 5 NC, 8 NC

## THS4211DGK
designator U?
Super-Fast, Ultra-Low-Distortion, High-Speed Operational Amplifier with Shutdown, 5 to 15 V, -40 to 85 degC, 8-pin SOP (DGK8), Green (RoHS & no Sb/Br); Manufacturer: Texas Instruments; PartNumber: THS4211DGK; 2nd Harmonic(dBc): 78; 3rd Harmonic(dBc): 100; @ MHz: 30; Acl, min stable gain(V/V): 1; BW @ Acl(MHz): 1000; Diff Gain(%): 0.007; Diff Phase(deg): 0.003; Iib(Max)(nA): 20000; Io(Typ)(mA): 170; Iq per channel(Max)(mA): 24; Settling Time (0.1%)(Typ)(ns): 22; Slew Rate(Typ)(V/us): 970; Sub Family: High Output Current Amplifier (>=50mA), High Speed Amplifier (>=50MHz); THD (Fc is 1 MHz)(Typ)(dB): -90; Vio(Max)(mV): 3; Vn at Flatband(Typ)(nV/rtHz): 7; Vs(Max)(V): 15; Vs(Min)(V): 5; DatasheetVersion: SLOS400E; PackageVersion: 4073329/E, 05/2006; PackageReference: DGK8; PackageDescription: 8-Pin Thin Small Outline, Body 3 x 3 mm, Pitch 0.65 mm; Supplier 1: Digi-Key; Supplier Part Number 1: 296-16709-5-ND; Supplier 2: Newark; Supplier Part Number 2: 95H4489; Supplier 3: Mouser; Supplier Part Number 3: 595-THS4211DGK; Eco-Plan: Green (RoHS & no Sb/Br); Number of Channels: 1; Mounting Technology: Surface Mount; Code_JEDEC: MO-187; ComponentLink1Description: Manufacturer URL; ComponentLink1URL: http://www.ti.com/; ComponentLink2Description: Datasheet; ComponentLink2URL: http://www.ti.com/general/docs/lit/getliterature.tsp?genericPartNumber=THS4211&fileType=pdf; ComponentLink3Description: Package Specification; ComponentLink3URL: http://www.ti.com/litv/pdf/mpds028d
footprint TI-DGK8_N (SOP, 8-Leads, Body 3x3mm, Pitch 0.65mm, IPC Medium Density)
footprint TI-DGK8_L (SOP, 8-Leads, Body 3x3mm, Pitch 0.65mm, IPC High Density)
footprint TI-DGK8_M (SOP, 8-Leads, Body 3x3mm, Pitch 0.65mm, IPC Low Density)
part A pins: 2 IN- (in), 3 IN+ (in), 4 VS- (power), 6 VOUT (out), 7 VS+ (power)
part B pins: 1 NC, 5 NC, 8 NC

## THS4211DGKG4
designator U?
Super-Fast, Ultra-Low-Distortion, High-Speed Operational Amplifier with Shutdown, 5 to 15 V, -40 to 85 degC, 8-pin SOP (DGK8), Green (RoHS & no Sb/Br); Manufacturer: Texas Instruments; PartNumber: THS4211DGKG4; 2nd Harmonic(dBc): 78; 3rd Harmonic(dBc): 100; @ MHz: 30; Acl, min stable gain(V/V): 1; BW @ Acl(MHz): 1000; Diff Gain(%): 0.007; Diff Phase(deg): 0.003; Iib(Max)(nA): 20000; Io(Typ)(mA): 170; Iq per channel(Max)(mA): 24; Settling Time (0.1%)(Typ)(ns): 22; Slew Rate(Typ)(V/us): 970; Sub Family: High Output Current Amplifier (>=50mA), High Speed Amplifier (>=50MHz); THD (Fc is 1 MHz)(Typ)(dB): -90; Vio(Max)(mV): 3; Vn at Flatband(Typ)(nV/rtHz): 7; Vs(Max)(V): 15; Vs(Min)(V): 5; DatasheetVersion: SLOS400E; PackageVersion: 4073329/E, 05/2006; PackageReference: DGK8; PackageDescription: 8-Pin Thin Small Outline, Body 3 x 3 mm, Pitch 0.65 mm; Supplier 1: Digi-Key; Supplier Part Number 1: THS4211DGKG4-ND; Supplier 2: Mouser; Supplier Part Number 2: 595-THS4211DGKG4; Eco-Plan: Green (RoHS & no Sb/Br); Number of Channels: 1; Mounting Technology: Surface Mount; Code_JEDEC: MO-187; ComponentLink1Description: Manufacturer URL; ComponentLink1URL: http://www.ti.com/; ComponentLink2Description: Datasheet; ComponentLink2URL: http://www.ti.com/general/docs/lit/getliterature.tsp?genericPartNumber=THS4211&fileType=pdf; ComponentLink3Description: Package Specification; ComponentLink3URL: http://www.ti.com/litv/pdf/mpds028d
footprint TI-DGK8_N (SOP, 8-Leads, Body 3x3mm, Pitch 0.65mm, IPC Medium Density)
footprint TI-DGK8_L (SOP, 8-Leads, Body 3x3mm, Pitch 0.65mm, IPC High Density)
footprint TI-DGK8_M (SOP, 8-Leads, Body 3x3mm, Pitch 0.65mm, IPC Low Density)
part A pins: 2 IN- (in), 3 IN+ (in), 4 VS- (power), 6 VOUT (out), 7 VS+ (power)
part B pins: 1 NC, 5 NC, 8 NC

## THS4211DGN
designator U?
Super-Fast, Ultra-Low-Distortion, High-Speed Operational Amplifier with Shutdown, 5 to 15 V, -40 to 85 degC, 8-pin SOP (DGN8), Green (RoHS & no Sb/Br); Manufacturer: Texas Instruments; PartNumber: THS4211DGN; 2nd Harmonic(dBc): 78; 3rd Harmonic(dBc): 100; @ MHz: 30; Acl, min stable gain(V/V): 1; BW @ Acl(MHz): 1000; Diff Gain(%): 0.007; Diff Phase(deg): 0.003; Iib(Max)(nA): 20000; Io(Typ)(mA): 170; Iq per channel(Max)(mA): 24; Settling Time (0.1%)(Typ)(ns): 22; Slew Rate(Typ)(V/us): 970; Sub Family: High Output Current Amplifier (>=50mA), High Speed Amplifier (>=50MHz); THD (Fc is 1 MHz)(Typ)(dB): -90; Vio(Max)(mV): 3; Vn at Flatband(Typ)(nV/rtHz): 7; Vs(Max)(V): 15; Vs(Min)(V): 5; DatasheetVersion: SLOS400E; PackageVersion: 4073271/F, 05/2011; PackageReference: DGN8-1760X1425TP; PackageDescription: 8-pin Plastic Small Outline, Body 3 x 3 mm, Pitch 0.65 mm; Supplier 1: Digi-Key; Supplier Part Number 1: 296-13657-5-ND; Supplier 2: Newark; Supplier Part Number 2: 02E7113; Supplier 3: Mouser; Supplier Part Number 3: 595-THS4211DGN; Eco-Plan: Green (RoHS & no Sb/Br); Number of Channels: 1; Mounting Technology: Surface Mount; Code_JEDEC: MO-187; ComponentLink1Description: Manufacturer URL; ComponentLink1URL: http://www.ti.com/; ComponentLink2Description: Datasheet; ComponentLink2URL: http://www.ti.com/general/docs/lit/getliterature.tsp?genericPartNumber=THS4211&fileType=pdf; ComponentLink3Description: Package Specification; ComponentLink3URL: http://www.ti.com/litv/pdf/mpds046e
footprint TI-DGN8-1760X1425TP_N (SOP, 8-Leads, Body 3x3mm, Pitch 0.65mm, Thermal Pad 1.76x1.425mm, IPC Medium Density)
footprint TI-DGN8-1760X1425TP_L (SOP, 8-Leads, Body 3x3mm, Pitch 0.65mm, Thermal Pad 1.76x1.425mm, IPC High Density)
footprint TI-DGN8-1760X1425TP_M (SOP, 8-Leads, Body 3x3mm, Pitch 0.65mm, Thermal Pad 1.76 x 1.425 mm, IPC Low Density)
part A pins: 2 IN- (in), 3 IN+ (in), 4 VS- (power), 6 VOUT (out), 7 VS+ (power), 9 EP
part B pins: 1 NC, 5 NC, 8 NC

## THS4211DGNG4
designator U?
Super-Fast, Ultra-Low-Distortion, High-Speed Operational Amplifier with Shutdown, 5 to 15 V, -40 to 85 degC, 8-pin SOP (DGN8), Green (RoHS & no Sb/Br); Manufacturer: Texas Instruments; PartNumber: THS4211DGNG4; 2nd Harmonic(dBc): 78; 3rd Harmonic(dBc): 100; @ MHz: 30; Acl, min stable gain(V/V): 1; BW @ Acl(MHz): 1000; Diff Gain(%): 0.007; Diff Phase(deg): 0.003; Iib(Max)(nA): 20000; Io(Typ)(mA): 170; Iq per channel(Max)(mA): 24; Settling Time (0.1%)(Typ)(ns): 22; Slew Rate(Typ)(V/us): 970; Sub Family: High Output Current Amplifier (>=50mA), High Speed Amplifier (>=50MHz); THD (Fc is 1 MHz)(Typ)(dB): -90; Vio(Max)(mV): 3; Vn at Flatband(Typ)(nV/rtHz): 7; Vs(Max)(V): 15; Vs(Min)(V): 5; DatasheetVersion: SLOS400E; PackageVersion: 4073271/F, 05/2011; PackageReference: DGN8-1760X1425TP; PackageDescription: 8-pin Plastic Small Outline, Body 3 x 3 mm, Pitch 0.65 mm; Supplier 1: Digi-Key; Supplier Part Number 1: THS4211DGNG4-ND; Supplier 2: Mouser; Supplier Part Number 2: 595-THS4211DGNG4; Eco-Plan: Green (RoHS & no Sb/Br); Number of Channels: 1; Mounting Technology: Surface Mount; Code_JEDEC: MO-187; ComponentLink1Description: Manufacturer URL; ComponentLink1URL: http://www.ti.com/; ComponentLink2Description: Datasheet; ComponentLink2URL: http://www.ti.com/general/docs/lit/getliterature.tsp?genericPartNumber=THS4211&fileType=pdf; ComponentLink3Description: Package Specification; ComponentLink3URL: http://www.ti.com/litv/pdf/mpds046e
footprint TI-DGN8-1760X1425TP_N (SOP, 8-Leads, Body 3x3mm, Pitch 0.65mm, Thermal Pad 1.76x1.425mm, IPC Medium Density)
footprint TI-DGN8-1760X1425TP_L (SOP, 8-Leads, Body 3x3mm, Pitch 0.65mm, Thermal Pad 1.76x1.425mm, IPC High Density)
footprint TI-DGN8-1760X1425TP_M (SOP, 8-Leads, Body 3x3mm, Pitch 0.65mm, Thermal Pad 1.76 x 1.425 mm, IPC Low Density)
part A pins: 2 IN- (in), 3 IN+ (in), 4 VS- (power), 6 VOUT (out), 7 VS+ (power), 9 EP
part B pins: 1 NC, 5 NC, 8 NC

## THS4211DGNR
designator U?
Super-Fast, Ultra-Low-Distortion, High-Speed Operational Amplifier with Shutdown, 5 to 15 V, -40 to 85 degC, 8-pin SOP (DGN8), Green (RoHS & no Sb/Br); Manufacturer: Texas Instruments; PartNumber: THS4211DGNR; 2nd Harmonic(dBc): 78; 3rd Harmonic(dBc): 100; @ MHz: 30; Acl, min stable gain(V/V): 1; BW @ Acl(MHz): 1000; Diff Gain(%): 0.007; Diff Phase(deg): 0.003; Iib(Max)(nA): 20000; Io(Typ)(mA): 170; Iq per channel(Max)(mA): 24; Settling Time (0.1%)(Typ)(ns): 22; Slew Rate(Typ)(V/us): 970; Sub Family: High Output Current Amplifier (>=50mA), High Speed Amplifier (>=50MHz); THD (Fc is 1 MHz)(Typ)(dB): -90; Vio(Max)(mV): 3; Vn at Flatband(Typ)(nV/rtHz): 7; Vs(Max)(V): 15; Vs(Min)(V): 5; DatasheetVersion: SLOS400E; PackageVersion: 4073271/F, 05/2011; PackageReference: DGN8-1760X1425TP; PackageDescription: 8-pin Plastic Small Outline, Body 3 x 3 mm, Pitch 0.65 mm; Supplier 1: Digi-Key; Supplier Part Number 1: THS4211DGNR-ND; Supplier 2: Newark; Supplier Part Number 2: 02E7114; Supplier 3: Mouser; Supplier Part Number 3: 595-THS4211DGNR; Eco-Plan: Green (RoHS & no Sb/Br); Number of Channels: 1; Mounting Technology: Surface Mount; Code_JEDEC: MO-187; ComponentLink1Description: Manufacturer URL; ComponentLink1URL: http://www.ti.com/; ComponentLink2Description: Datasheet; ComponentLink2URL: http://www.ti.com/general/docs/lit/getliterature.tsp?genericPartNumber=THS4211&fileType=pdf; ComponentLink3Description: Package Specification; ComponentLink3URL: http://www.ti.com/litv/pdf/mpds046e
footprint TI-DGN8-1760X1425TP_N (SOP, 8-Leads, Body 3x3mm, Pitch 0.65mm, Thermal Pad 1.76x1.425mm, IPC Medium Density)
footprint TI-DGN8-1760X1425TP_L (SOP, 8-Leads, Body 3x3mm, Pitch 0.65mm, Thermal Pad 1.76x1.425mm, IPC High Density)
footprint TI-DGN8-1760X1425TP_M (SOP, 8-Leads, Body 3x3mm, Pitch 0.65mm, Thermal Pad 1.76 x 1.425 mm, IPC Low Density)
part A pins: 2 IN- (in), 3 IN+ (in), 4 VS- (power), 6 VOUT (out), 7 VS+ (power), 9 EP
part B pins: 1 NC, 5 NC, 8 NC

## THS4211DGNRG4
designator U?
Super-Fast, Ultra-Low-Distortion, High-Speed Operational Amplifier with Shutdown, 5 to 15 V, -40 to 85 degC, 8-pin SOP (DGN8), Green (RoHS & no Sb/Br); Manufacturer: Texas Instruments; PartNumber: THS4211DGNRG4; 2nd Harmonic(dBc): 78; 3rd Harmonic(dBc): 100; @ MHz: 30; Acl, min stable gain(V/V): 1; BW @ Acl(MHz): 1000; Diff Gain(%): 0.007; Diff Phase(deg): 0.003; Iib(Max)(nA): 20000; Io(Typ)(mA): 170; Iq per channel(Max)(mA): 24; Settling Time (0.1%)(Typ)(ns): 22; Slew Rate(Typ)(V/us): 970; Sub Family: High Output Current Amplifier (>=50mA), High Speed Amplifier (>=50MHz); THD (Fc is 1 MHz)(Typ)(dB): -90; Vio(Max)(mV): 3; Vn at Flatband(Typ)(nV/rtHz): 7; Vs(Max)(V): 15; Vs(Min)(V): 5; DatasheetVersion: SLOS400E; PackageVersion: 4073271/F, 05/2011; PackageReference: DGN8-1760X1425TP; PackageDescription: 8-pin Plastic Small Outline, Body 3 x 3 mm, Pitch 0.65 mm; Supplier 1: Digi-Key; Supplier Part Number 1: THS4211DGNRG4-ND; Supplier 2: Mouser; Supplier Part Number 2: 595-THS4211DGNRG4; Eco-Plan: Green (RoHS & no Sb/Br); Number of Channels: 1; Mounting Technology: Surface Mount; Code_JEDEC: MO-187; ComponentLink1Description: Manufacturer URL; ComponentLink1URL: http://www.ti.com/; ComponentLink2Description: Datasheet; ComponentLink2URL: http://www.ti.com/general/docs/lit/getliterature.tsp?genericPartNumber=THS4211&fileType=pdf; ComponentLink3Description: Package Specification; ComponentLink3URL: http://www.ti.com/litv/pdf/mpds046e
footprint TI-DGN8-1760X1425TP_N (SOP, 8-Leads, Body 3x3mm, Pitch 0.65mm, Thermal Pad 1.76x1.425mm, IPC Medium Density)
footprint TI-DGN8-1760X1425TP_L (SOP, 8-Leads, Body 3x3mm, Pitch 0.65mm, Thermal Pad 1.76x1.425mm, IPC High Density)
footprint TI-DGN8-1760X1425TP_M (SOP, 8-Leads, Body 3x3mm, Pitch 0.65mm, Thermal Pad 1.76 x 1.425 mm, IPC Low Density)
part A pins: 2 IN- (in), 3 IN+ (in), 4 VS- (power), 6 VOUT (out), 7 VS+ (power), 9 EP
part B pins: 1 NC, 5 NC, 8 NC

## THS4211DR
designator U?
Super-Fast, Ultra-Low-Distortion, High-Speed Operational Amplifier with Shutdown, 5 to 15 V, -40 to 85 degC, 8-pin SOIC (D8), Green (RoHS & no Sb/Br); Manufacturer: Texas Instruments; PartNumber: THS4211DR; 2nd Harmonic(dBc): 78; 3rd Harmonic(dBc): 100; @ MHz: 30; Acl, min stable gain(V/V): 1; BW @ Acl(MHz): 1000; Diff Gain(%): 0.007; Diff Phase(deg): 0.003; Iib(Max)(nA): 20000; Io(Typ)(mA): 170; Iq per channel(Max)(mA): 24; Settling Time (0.1%)(Typ)(ns): 22; Slew Rate(Typ)(V/us): 970; Sub Family: High Output Current Amplifier (>=50mA), High Speed Amplifier (>=50MHz); THD (Fc is 1 MHz)(Typ)(dB): -90; Vio(Max)(mV): 3; Vn at Flatband(Typ)(nV/rtHz): 7; Vs(Max)(V): 15; Vs(Min)(V): 5; DatasheetVersion: SLOS400E; PackageVersion: 4040047-3/M, 06/2011; PackageReference: D8; PackageDescription: 8-Pin Plastic Small Outline, Body 4.9 x 3.9 mm, Pitch 1.27 mm; Supplier 1: Digi-Key; Supplier Part Number 1: THS4211DR-ND; Supplier 2: Newark; Supplier Part Number 2: 02E7115; Supplier 3: Mouser; Supplier Part Number 3: 595-THS4211DR; Eco-Plan: Green (RoHS & no Sb/Br); Number of Channels: 1; Mounting Technology: Surface Mount; Code_JEDEC: MS-012; ComponentLink1Description: Manufacturer URL; ComponentLink1URL: http://www.ti.com/; ComponentLink2Description: Datasheet; ComponentLink2URL: http://www.ti.com/general/docs/lit/getliterature.tsp?genericPartNumber=THS4211&fileType=pdf; ComponentLink3Description: Package Specification; ComponentLink3URL: http://www.ti.com/litv/pdf/msoi002j
footprint TI-D8_N (SOIC, 8-Leads, Body 4.9x3.9mm, Pitch 1.27mm, IPC Medium Density)
footprint TI-D8_L (SOIC, 8-Leads, Body 4.9x3.9mm, Pitch 1.27mm, IPC High Density)
footprint TI-D8_M (SOIC, 8-Leads, Body 4.9x3.9mm, Pitch 1.27mm, IPC Low Density)
part A pins: 2 IN- (in), 3 IN+ (in), 4 VS- (power), 6 VOUT (out), 7 VS+ (power)
part B pins: 1 NC, 5 NC, 8 NC

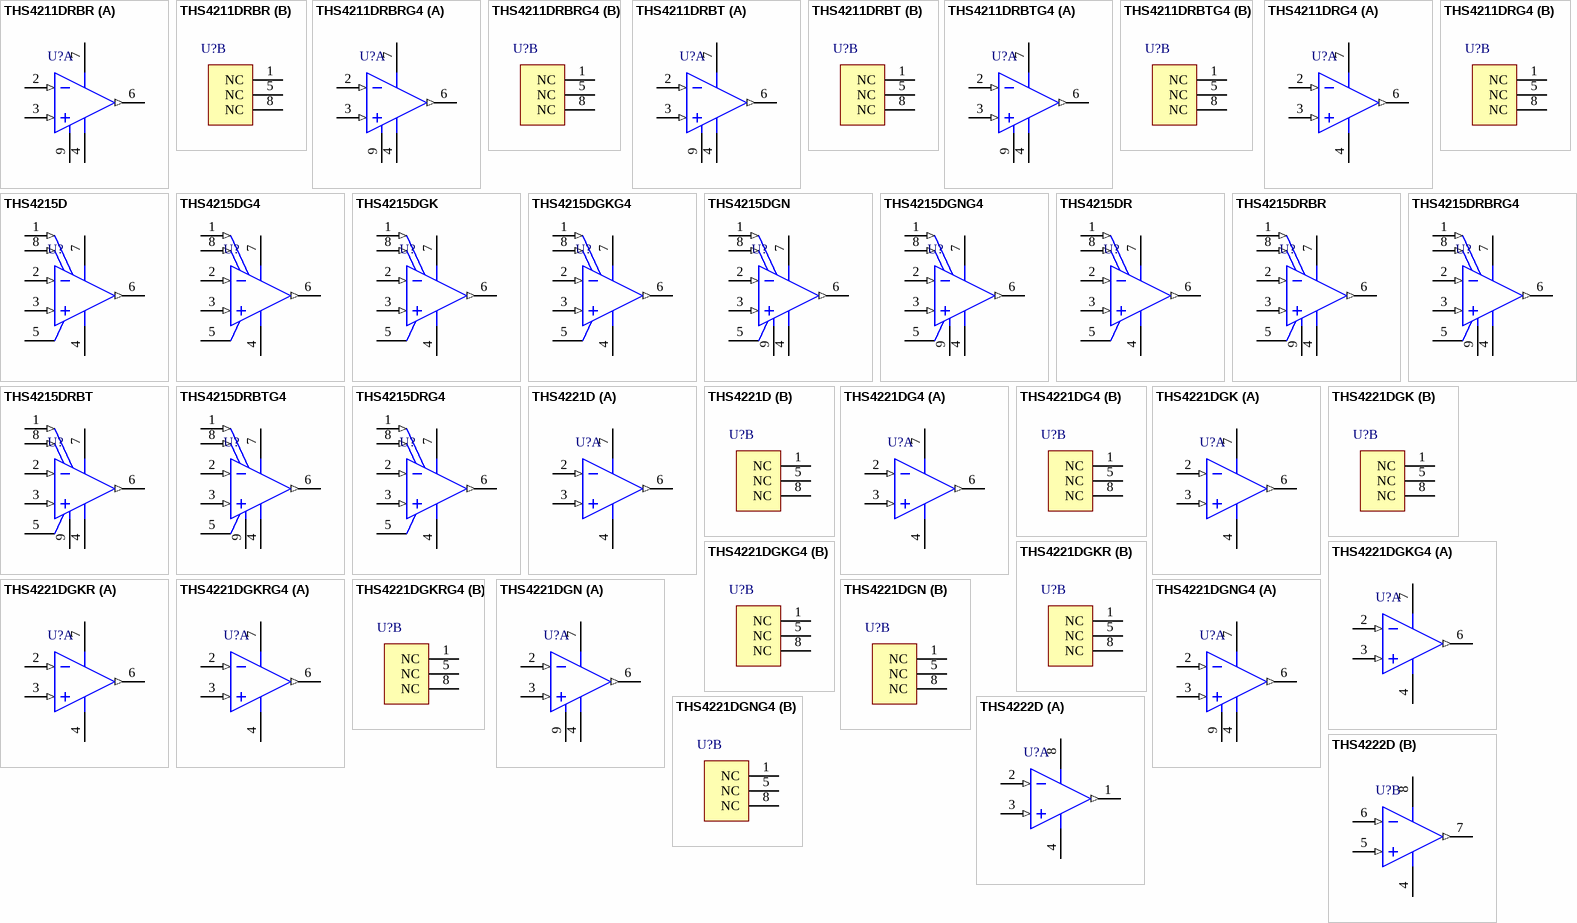
[diagram p40: symbols THS4211DRBR to THS4222D]

## THS4211DRBR
designator U?
Super-Fast, Ultra-Low-Distortion, High-Speed Operational Amplifier with Shutdown, 5 to 15 V, -40 to 85 degC, 8-pin SON (DRB8), Green (RoHS & no Sb/Br); Manufacturer: Texas Instruments; PartNumber: THS4211DRBR; 2nd Harmonic(dBc): 78; 3rd Harmonic(dBc): 100; @ MHz: 30; Acl, min stable gain(V/V): 1; BW @ Acl(MHz): 1000; Diff Gain(%): 0.007; Diff Phase(deg): 0.003; Iib(Max)(nA): 20000; Io(Typ)(mA): 170; Iq per channel(Max)(mA): 24; Settling Time (0.1%)(Typ)(ns): 22; Slew Rate(Typ)(V/us): 970; Sub Family: High Output Current Amplifier (>=50mA), High Speed Amplifier (>=50MHz); THD (Fc is 1 MHz)(Typ)(dB): -90; Vio(Max)(mV): 3; Vn at Flatband(Typ)(nV/rtHz): 7; Vs(Max)(V): 15; Vs(Min)(V): 5; DatasheetVersion: SLOS400E; PackageVersion: 4203482-2/K, 06/2012; PackageReference: DRB8-1750X1500TP; PackageDescription: 8-Pin Plastic Small Outline, Body 3 x 3 mm, Pitch 0.65 mm; Supplier 1: Digi-Key; Supplier Part Number 1: THS4211DRBR-ND; Supplier 2: Mouser; Supplier Part Number 2: 595-THS4211DRBR; Eco-Plan: Green (RoHS & no Sb/Br); Number of Channels: 1; Mounting Technology: Surface Mount; ComponentLink1Description: Manufacturer URL; ComponentLink1URL: http://www.ti.com/; ComponentLink2Description: Datasheet; ComponentLink2URL: http://www.ti.com/general/docs/lit/getliterature.tsp?genericPartNumber=THS4211&fileType=pdf; ComponentLink3Description: Package Specification; ComponentLink3URL: http://www.ti.com/litv/pdf/mpds118h
footprint TI-DRB8-1750X1500TP_V (SON, 8-Leads, Body 3x3mm, Pitch 0.65mm, Thermal Pad 1.50 x 3.8mm)
part A pins: 2 IN- (in), 3 IN+ (in), 4 VS- (power), 6 VOUT (out), 7 VS+ (power), 9 EP
part B pins: 1 NC, 5 NC, 8 NC